# Altium footprint library PcbLib1.PcbLib: 54 footprints (part 2 of 4)
Each footprint in its own frame and in the unit in brackets; x right, y up, seen from the top. Pads: shape width x height; smd on the part's side, far side on the other; paste and mask are expansions set on the pad; w line width, h text height; cw(c..) or ccw(c..) is an arc to the next point about the centre after c.
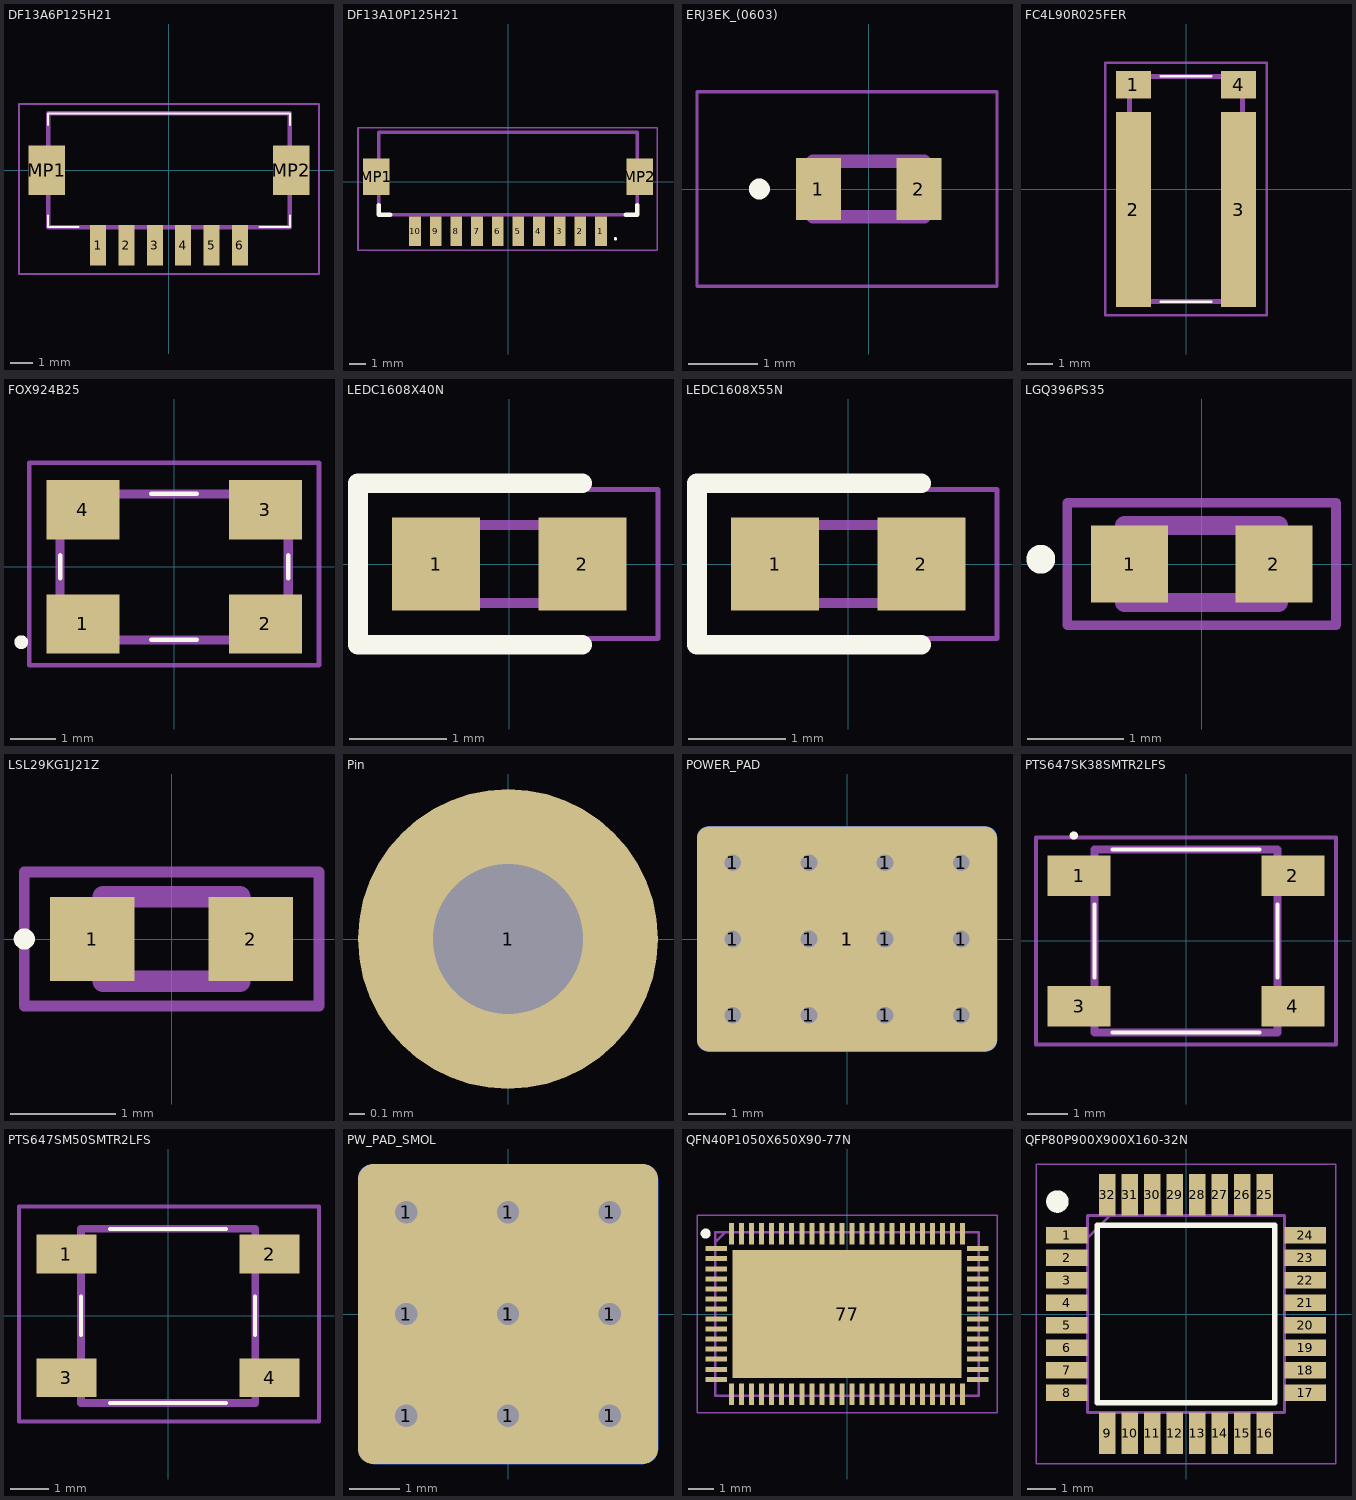
[diagram p1: the footprints below, top view; thin cyan lines are the x and y axes]

## DF13A6P125H21 [mm]
pads (8):
  rect 0.7x1.8 smd: 1(-3.125,-3.3) 2(-1.875,-3.3) 3(-0.625,-3.3) 4(0.625,-3.3) 5(1.875,-3.3) 6(3.125,-3.3)
  rect 1.6x2.2 smd: MP1(-5.375,0) MP2(5.375,0)
Top Overlay:
  lines w0.1: -5.325,-2 -5.325,-2.5 -4,-2.5 ; -5.325,2 -5.325,2.5 5.325,2.5 5.325,2 ; 4,-2.5 5.325,-2.5 5.325,-2
Mechanical 13:
  lines w0.2: -5.325,-2.5 5.325,-2.5 5.325,2.5 -5.325,2.5 -5.325,-2.5
Mechanical 15:
  lines w0.1: -6.604,-4.572 6.604,-4.572 6.604,2.921 -6.604,2.921 -6.604,-4.572
3D body "DF13A-6P-1.25H.stp": height 3.68, standoff 0.08, extent -6.075,-3.833 6.075,2.667

## DF13A10P125H21 [mm]
pads (12):
  rect 0.7x1.8 smd: 1(5.625,-3) 2(4.375,-3) 3(3.125,-3) 4(1.875,-3) 5(0.625,-3) 6(-0.625,-3) 7(-1.875,-3) 8(-3.125,-3) 9(-4.375,-3) 10(-5.625,-3)
  rect 1.6x2.2 smd: MP1(-7.975,0.3) MP2(7.975,0.3)
Top Overlay:
  lines w0.1: 6.5,-3.5 ccw(c6.5,-3.45) 6.5,-3.4 ccw(c6.5,-3.45) 6.5,-3.5
  lines w0.254: -7.825,-1.4 -7.825,-2 -7.125,-2 ; 7.125,-2 7.825,-2 7.825,-1.4
Mechanical 13:
  lines w0.2: -7.825,-2 7.825,-2 7.825,3 -7.825,3 -7.825,-2
Mechanical 15:
  lines w0.1: -9.075,-4.15 9.025,-4.15 9.025,3.275 -9.075,3.275 -9.075,-4.15
3D body "DF13A-10P-1.25H.stp": height 3.58, standoff -0.02, extent -8.575,-3.528 8.575,2.972

## ERJ3EK_(0603) [mm]
pads (2):
  rect 0.65x0.9 smd: 1(-0.725,0) 2(0.725,0)
Top Overlay:
  circle w0.2: c-1.575,0 r0.05
Mechanical 13:
  lines w0.2: -0.8,-0.4 -0.8,0.4 0.8,0.4 0.8,-0.4 -0.8,-0.4
Mechanical 15:
  lines w0.05: -2.475,-1.4 -2.475,1.4 1.85,1.4 1.85,-1.4 -2.475,-1.4
3D body "ERJ-3EKF1333V.stp": height 0.45, standoff 0, extent -0.8,-0.4 0.8,0.4

## FC4L90R025FER [mm]
pads (4):
  rect 1.4x1.1 smd: 1(-2.1,4.175) 4(2.1,4.175)
  rect 1.4x7.8 smd: 2(-2.1,-0.825) 3(2.1,-0.825)
Top Overlay:
  lines w0.1: -1,-4.5 1,-4.5 -1,-4.5 ; -1,4.5 1,4.5 -1,4.5
Mechanical 13:
  lines w0.2: -2.25,-4.5 2.25,-4.5 2.25,4.5 -2.25,4.5 -2.25,-4.5
Mechanical 15:
  lines w0.1: -3.225,-5.05 3.225,-5.05 3.225,5.05 -3.225,5.05 -3.225,-5.05
3D body "FC4L90R025FER.stp": height 0.9, standoff 0, extent -2.69,-4.585 2.69,4.615

## FOX924B25 [mm]
pads (4):
  rect 1.6x1.3 smd: 1(-2,-1.25) 2(2,-1.25) 3(2,1.25) 4(-2,1.25)
Top Overlay:
  lines w0.1: -2.5,-0.25 -2.5,0.25 -2.5,-0.25 ; -0.5,-1.6 0.5,-1.6 -0.5,-1.6 ; -0.5,1.6 0.5,1.6 -0.5,1.6 ; 2.5,-0.25 2.5,0.25 2.5,-0.25
  lines w0.2: -3.4,-1.65 ccw(c-3.35,-1.65) -3.3,-1.65 ; -3.4,-1.65 cw(c-3.35,-1.65) -3.3,-1.65 ; -3.4,-1.65 ccw(c-3.35,-1.65) -3.3,-1.65
Mechanical 13:
  lines w0.2: -2.5,-1.6 2.5,-1.6 2.5,1.6 -2.5,1.6 -2.5,-1.6
Mechanical 15:
  lines w0.1: -3.175,-2.159 3.175,-2.159 3.175,2.286 -3.175,2.286 -3.175,-2.159
3D body "FOX924B-27.stp": height 1.6, standoff 0, extent -2.67,-1.77 2.67,1.77

## LEDC1608X40N [mm]
pads (2):
  rect 0.9x0.95 smd: 1(-0.75,0) 2(0.75,0)
Top Overlay:
  lines w0.2: 0.75,-0.825 -1.55,-0.825 -1.55,0.825 0.75,0.825
Mechanical 13:
  lines w0.1: -0.8,0.133 -0.533,0.4 ; -0.8,-0.4 0.8,-0.4 0.8,0.4 -0.8,0.4 -0.8,-0.4
Mechanical 15:
  lines w0.05: -1.524,-0.762 1.524,-0.762 1.524,0.762 -1.524,0.762 -1.524,-0.762
3D body "LG_Q396-PS-35.stp": height 0.5, standoff 0, extent -0.8,-0.4 0.8,0.4

## LEDC1608X55N [mm]
pads (2):
  rect 0.9x0.95 smd: 1(-0.75,0) 2(0.75,0)
Top Overlay:
  lines w0.2: 0.75,-0.825 -1.55,-0.825 -1.55,0.825 0.75,0.825
Mechanical 13:
  lines w0.1: -0.8,0.133 -0.533,0.4 ; -0.8,-0.4 -0.8,0.4 0.8,0.4 0.8,-0.4 -0.8,-0.4
Mechanical 15:
  lines w0.05: -1.524,-0.762 -1.524,0.762 1.524,0.762 1.524,-0.762 -1.524,-0.762
3D body "LG_Q396-PS-35.stp": height 0.5, standoff 0, extent -0.8,-0.4 0.8,0.4

## LGQ396PS35 [mm]
pads (2):
  rect 0.8x0.8 smd: 1(-0.75,0) 2(0.75,0)
Top Overlay:
  lines w0.2: -1.673,0 ccw(c-1.673,0.05) -1.673,0.1 ; -1.673,0 cw(c-1.673,0.05) -1.673,0.1 ; -1.673,0 ccw(c-1.673,0.05) -1.673,0.1
Mechanical 13:
  lines w0.2: -0.8,-0.4 0.8,-0.4 0.8,0.4 -0.8,0.4 -0.8,-0.4
Mechanical 15:
  lines w0.1: -1.397,-0.635 1.397,-0.635 1.397,0.635 -1.397,0.635 -1.397,-0.635
3D body "LG_Q396-PS-35.stp": height 0.5, standoff 0, extent -0.8,-0.4 0.8,0.4

## LSL29KG1J21Z [mm]
pads (2):
  rect 0.8x0.8 smd: 1(-0.75,0) 2(0.75,0)
Top Overlay:
  lines w0.1: -1.446,0 cw(c-1.396,0) -1.346,0 cw(c-1.396,0) -1.446,0
Mechanical 13:
  lines w0.2: -0.65,-0.4 0.65,-0.4 0.65,0.4 -0.65,0.4 -0.65,-0.4
Mechanical 15:
  lines w0.1: -1.397,-0.635 1.397,-0.635 1.397,0.635 -1.397,0.635 -1.397,-0.635
3D body "LS_L29K-G1J2-1-Z.stp": height 0.77, standoff 0, extent -0.65,-0.4 0.65,0.4

## Pin [mm]
pads (1):
  round 2 hole 1: 1(0,0)

## POWER_PAD [mm]
pads (14):
  round 0.85 hole 0.45: 1(-3.048,-2.032) 1(-3.048,0) 1(-3.048,2.032) 1(-1.016,-2.032) 1(-1.016,0) 1(-1.016,2.032) 1(1.016,-2.032) 1(1.016,0) 1(1.016,2.032) 1(3.048,-2.032) 1(3.048,0) 1(3.048,2.032)
  rrect10% 8x6 smd: 1(0,0)
  rrect10% 8x6 smd far side: 1(0,0)

## PTS647SK38SMTR2LFS [mm]
pads (4):
  rect 1.55x1 smd: 1(-2.625,1.6) 2(2.625,1.6) 3(-2.625,-1.6) 4(2.625,-1.6)
Top Overlay:
  lines w0.1: -2.25,-0.9 -2.25,0.9 ; -1.8,-2.25 1.8,-2.25 ; -1.8,2.25 1.8,2.25 ; 2.25,-0.9 2.25,0.9 ; -2.755,2.538 ccw(c-2.755,2.588) -2.755,2.638 ccw(c-2.755,2.588) -2.755,2.538
Mechanical 13:
  lines w0.2: -2.25,-2.25 -2.25,2.25 2.25,2.25 2.25,-2.25 -2.25,-2.25
Mechanical 15:
  lines w0.1: -3.683,-2.54 -3.683,2.54 3.683,2.54 3.683,-2.54 -3.683,-2.54
3D body "PTS647SK38SMTR2LFS.stp": height 3.9, standoff 0, extent -3.3,-2.25 3.3,2.25

## PTS647SM50SMTR2LFS [mm]
pads (4):
  rect 1.55x1 smd: 1(-2.625,1.6) 2(2.625,1.6) 3(-2.625,-1.6) 4(2.625,-1.6)
Top Overlay:
  lines w0.1: -2.25,-0.5 -2.25,0.5 ; -1.5,-2.25 1.5,-2.25 ; -1.5,2.25 1.5,2.25 ; 2.25,-0.5 2.25,0.5
Mechanical 13:
  lines w0.2: -2.25,-2.25 -2.25,2.25 2.25,2.25 2.25,-2.25 -2.25,-2.25
Mechanical 15:
  lines w0.1: -3.85,-2.725 -3.85,2.825 3.9,2.825 3.9,-2.725 -3.85,-2.725
3D body "PTS647SM50SMTR2LFS.stp": height 5, standoff 0, extent -3.25,-2.25 3.25,2.25

## PW_PAD_SMOL [mm]
pads (11):
  round 0.85 hole 0.45: 1(-2.032,-2.032) 1(-2.032,0) 1(-2.032,2.032) 1(0,-2.032) 1(0,0) 1(0,2.032) 1(2.032,-2.032) 1(2.032,0) 1(2.032,2.032)
  rrect10% 6x6 smd far side: 1(0,0)
  rrect10% 6x6 smd: 1(0,0)

## QFN40P1050X650X90-77N [mm]
pads (77):
  rect 0.85x0.2 smd: 1(-5.2,2.6) 2(-5.2,2.2) 3(-5.2,1.8) 4(-5.2,1.4) 5(-5.2,1) 6(-5.2,0.6) 7(-5.2,0.2) 8(-5.2,-0.2) 9(-5.2,-0.6) 10(-5.2,-1) 11(-5.2,-1.4) 12(-5.2,-1.8) 13(-5.2,-2.2) 14(-5.2,-2.6) 39(5.2,-2.6) 40(5.2,-2.2) 41(5.2,-1.8) 42(5.2,-1.4) 43(5.2,-1) 44(5.2,-0.6) 45(5.2,-0.2) 46(5.2,0.2) 47(5.2,0.6) 48(5.2,1) 49(5.2,1.4) 50(5.2,1.8) 51(5.2,2.2) 52(5.2,2.6)
  rect 0.2x0.85 smd: 15(-4.6,-3.2) 16(-4.2,-3.2) 17(-3.8,-3.2) 18(-3.4,-3.2) 19(-3,-3.2) 20(-2.6,-3.2) 21(-2.2,-3.2) 22(-1.8,-3.2) 23(-1.4,-3.2) 24(-1,-3.2) 25(-0.6,-3.2) 26(-0.2,-3.2) 27(0.2,-3.2) 28(0.6,-3.2) 29(1,-3.2) 30(1.4,-3.2) 31(1.8,-3.2) 32(2.2,-3.2) 33(2.6,-3.2) 34(3,-3.2) 35(3.4,-3.2) 36(3.8,-3.2) 37(4.2,-3.2) 38(4.6,-3.2) 53(4.6,3.2) 54(4.2,3.2) 55(3.8,3.2) 56(3.4,3.2) 57(3,3.2) 58(2.6,3.2) 59(2.2,3.2) 60(1.8,3.2) 61(1.4,3.2) 62(1,3.2) 63(0.6,3.2) 64(0.2,3.2) 65(-0.2,3.2) 66(-0.6,3.2) 67(-1,3.2) 68(-1.4,3.2) 69(-1.8,3.2) 70(-2.2,3.2) 71(-2.6,3.2) 72(-3,3.2) 73(-3.4,3.2) 74(-3.8,3.2) 75(-4.2,3.2) 76(-4.6,3.2)
  rect 9.1x5.1 smd: 77(0,0)
Top Overlay:
  circle w0.2: c-5.625,3.2 r0.1
Mechanical 13:
  lines w0.1: -5.25,2.85 -4.85,3.25 ; -5.25,-3.25 5.25,-3.25 5.25,3.25 -5.25,3.25 -5.25,-3.25
Mechanical 15:
  lines w0.05: -5.969,-3.937 5.969,-3.937 5.969,3.937 -5.969,3.937 -5.969,-3.937
3D body "TMC4671-ES.stp": height 0.9, standoff 0, extent -5.3,-3.3 5.3,3.3

## QFP80P900X900X160-32N [mm]
pads (32):
  rect 1.475x0.6 smd: 1(-4.238,2.8) 2(-4.238,2) 3(-4.238,1.2) 4(-4.238,0.4) 5(-4.238,-0.4) 6(-4.238,-1.2) 7(-4.238,-2) 8(-4.238,-2.8) 17(4.238,-2.8) 18(4.238,-2) 19(4.238,-1.2) 20(4.238,-0.4) 21(4.238,0.4) 22(4.238,1.2) 23(4.238,2) 24(4.238,2.8)
  rect 0.6x1.475 smd: 9(-2.8,-4.238) 10(-2,-4.238) 11(-1.2,-4.238) 12(-0.4,-4.238) 13(0.4,-4.238) 14(1.2,-4.238) 15(2,-4.238) 16(2.8,-4.238) 25(2.8,4.238) 26(2,4.238) 27(1.2,4.238) 28(0.4,4.238) 29(-0.4,4.238) 30(-1.2,4.238) 31(-2,4.238) 32(-2.8,4.238)
Top Overlay:
  circle w0.4: c-4.575,4 r0.2
  lines w0.2: -3.15,-3.15 3.15,-3.15 3.15,3.15 -3.15,3.15 -3.15,-3.15
Mechanical 13:
  lines w0.1: -3.5,2.7 -2.7,3.5 ; -3.5,-3.5 3.5,-3.5 3.5,3.5 -3.5,3.5 -3.5,-3.5
Mechanical 15:
  lines w0.05: -5.334,-5.334 5.334,-5.334 5.334,5.334 -5.334,5.334 -5.334,-5.334
3D body "STM32F303K8T6.stp": height 1.6, standoff 0, extent -4.5,-4.5 4.5,4.5